# Altium footprint library SOD-123.PcbLib: 1 footprints
Each footprint in its own frame and in the unit in brackets; x right, y up, seen from the top. Pads: shape width x height; smd on the part's side, far side on the other; paste and mask are expansions set on the pad; w line width, h text height; cw(c..) or ccw(c..) is an arc to the next point about the centre after c.
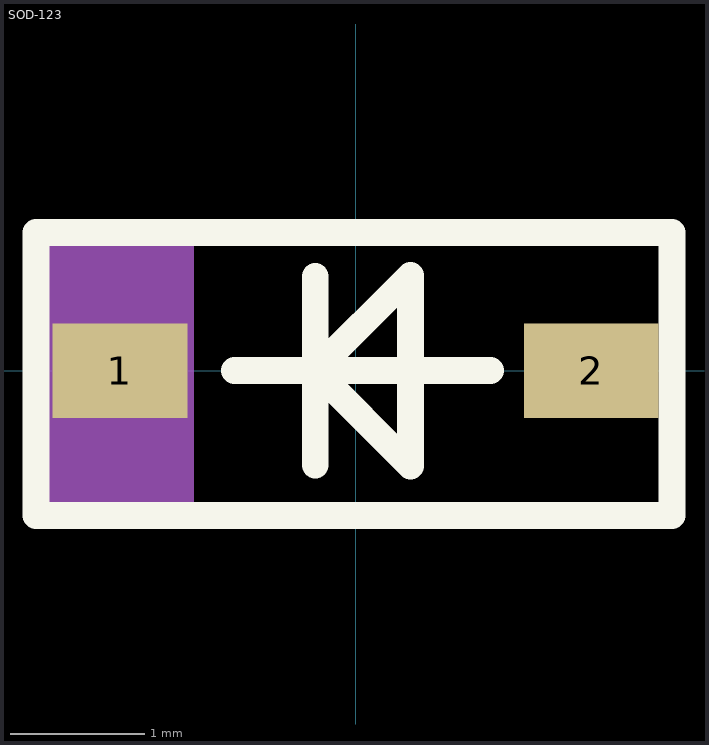
[diagram p0: the footprint, top view; thin cyan lines are the x and y axes]

## SOD-123 [mm]
height 0.9
pads (2):
  rect 1x0.7 smd: 1(-1.75,0) 2(1.75,0)
Top Overlay:
  lines w0.2: -0.9,0 -0.3,0 ; -0.3,-0.7 -0.3,0 ; -0.3,0.7 -0.3,0 ; 1,0 -0.3,0 ; -0.3,0 0.407,-0.707 0.407,0.707 -0.3,0 ; -2.375,-1.075 2.35,-1.075 2.35,1.025 -2.375,1.025 -2.375,-1.075
Top Assembly:
  rectangle: -2.25,-1.1 -1.2,1.05
  lines w0.1: -2.25,-1.075 -2.25,-0.8 -2.25,0.7 -2.25,1.05 2.35,1.05 2.35,-1.075 -2.25,-1.075
  text "'.Designator'" at 0,0 h0.7
3D body "SOD-123_STM.step": height 1.45, standoff 0, extent -1.981,-0.851 1.981,0.851